# Altium footprint library ESP-07S.PcbLib: 1 footprints
Each footprint in its own frame and in the unit in brackets; x right, y up, seen from the top. Pads: shape width x height; smd on the part's side, far side on the other; paste and mask are expansions set on the pad; w line width, h text height; cw(c..) or ccw(c..) is an arc to the next point about the centre after c.
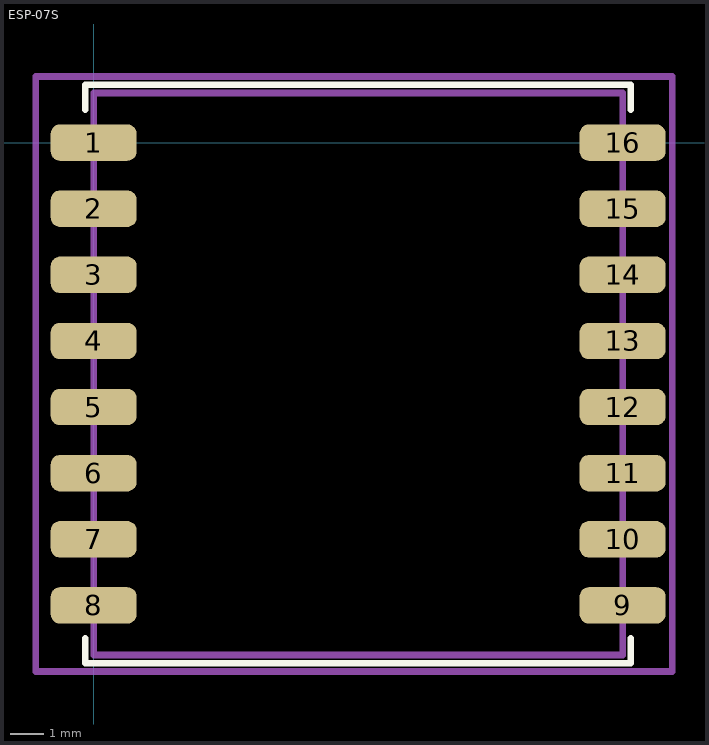
[diagram p0: the footprint, top view; thin cyan lines are the x and y axes]

## ESP-07S [mm]
pads (16):
  rrect50% 2.6x1.1 smd mask+0.05: 1(0,0) 2(0,-2) 3(0,-4) 4(0,-6) 5(0,-8) 6(0,-10) 7(0,-12) 8(0,-14) 9(16,-14) 10(16,-12) 11(16,-10) 12(16,-8) 13(16,-6) 14(16,-4) 15(16,-2) 16(16,0)
Top Overlay:
  lines w0.2: -0.25,-15 -0.25,-15.75 16.25,-15.75 16.25,-15 ; -0.25,1 -0.25,1.75 16.25,1.75 16.25,1
Top Assembly:
  lines w0.2: 0,-15.5 0,1.5 16,1.5 16,-15.5 0,-15.5
Top Courtyard:
  lines w0.2: -1.75,-16 17.5,-16 17.5,2 -1.75,2 -1.75,0.25 -1.75,-16
3D body "esp-07s.stp": height 3.28, standoff 0, extent 0,-15.5 16,1.5